# EAGLE library part GBA-LINK (library link_port)
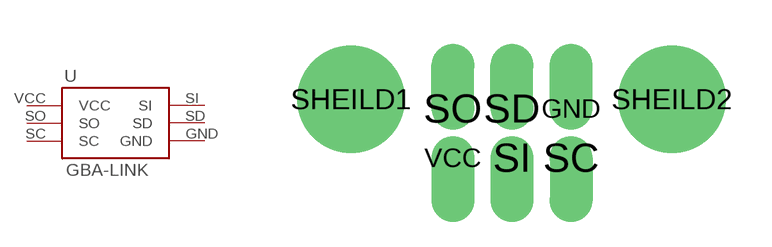
[diagram p0: symbol with the pads of GBA-LINK; footprint GBA-LINK]

Designator prefix -

## GBA-LINK  [GBA-LINK]
GND  GND
SC  SC
SD  SD
SI  SI
SO  SO
VCC  VCC

## Footprint GBA-LINK (pad centres in mm)
drill 0.9 pad 1.27 offset: GND 7.18,1.67; SC 7.18,0.06; SD 5.25,1.67; SI 5.25,0.06; SO 3.32,1.67; VCC 3.32,0.06
drill 2.2 pad 3.5: SHEILD1 0,1.965; SHEILD2 10.47,1.965